# Altium footprint library SEI_PKG_RMCF1206.PcbLib: 1 footprints
Each footprint in its own frame and in the unit in brackets; x right, y up, seen from the top. Pads: shape width x height; smd on the part's side, far side on the other; paste and mask are expansions set on the pad; w line width, h text height; cw(c..) or ccw(c..) is an arc to the next point about the centre after c.
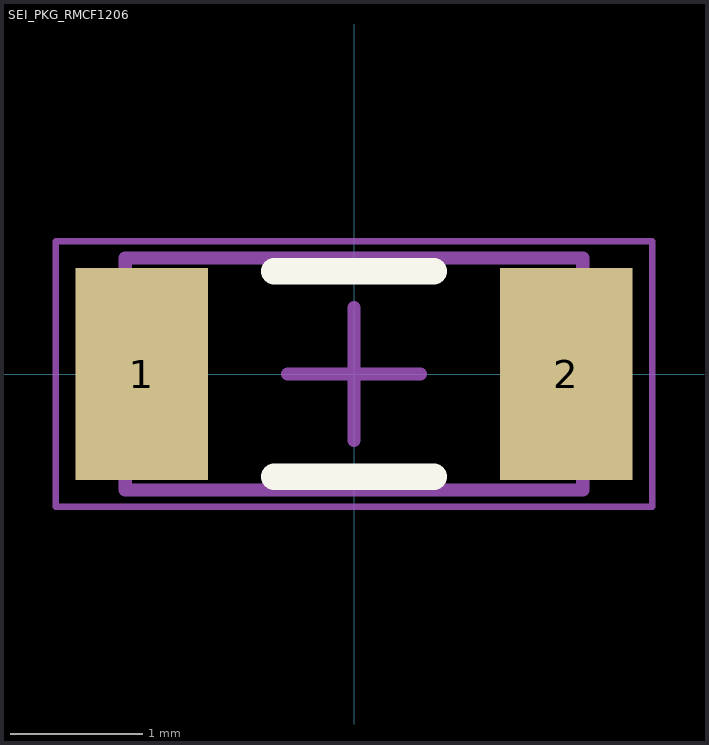
[diagram p0: the footprint, top view; thin cyan lines are the x and y axes]

## SEI_PKG_RMCF1206 [mm]
height 0.7
pads (2):
  rect 1x1.6 smd: 1(-1.6,0) 2(1.6,0)
Top Overlay:
  lines w0.2: -0.6,-0.775 0.6,-0.775 ; -0.6,0.775 0.6,0.775
Mechanical 13:
  lines w0.1: -1.725,-0.875 1.725,-0.875 1.725,0.875 -1.725,0.875 -1.725,-0.875
Mechanical 15:
  lines w0.05: -2.25,-1 2.25,-1 2.25,1 -2.25,1 -2.25,-1
  lines w0.1: -0.5,0 0.5,0 ; 0,-0.5 0,0.5
3D body: height 0.7, standoff 0, extent -1.725,-0.875 1.725,0.875